# EAGLE library part RQ6E050ATTCR (library SamacSys_Parts)
MOSFET,P-channel,30V,5A,SOT457T ROHM RQ6E050ATTCR Dual P-channel MOSFET Transistor, +/-5 A, -30 V, 6-Pin SOT-457T Source: Datasheet <http://uk.rs-online.com/web/p/products/1246805P>
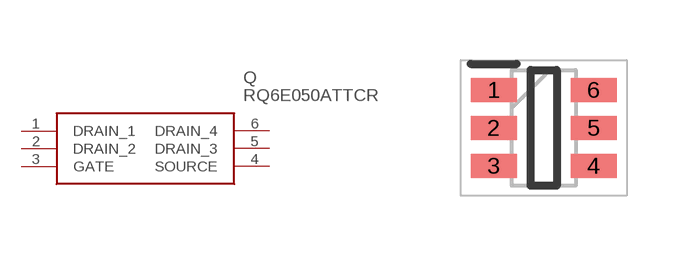
[diagram p1: symbol with the pads of SOT95P280X100-6N; footprint SOT95P280X100-6N]

Designator prefix Q

## RQ6E050ATTCR (DESCRIPTION: MOSFET,P-channel,30V,5A,SOT457T ROHM RQ6E050ATTCR Dual P-channel MOSFET Transistor, +/-5 A, -30 V, 6-Pin SOT-457T; HEIGHT: 1mm; MANUFACTURER_NAME: ROHM Semiconductor; MANUFACTURER_PART_NUMBER: RQ6E050ATTCR; RS_PART_NUMBER: 1246805P; RS_PRICE-STOCK: http://uk.rs-online.com/web/p/products/1246805P)  [SOT95P280X100-6N]
1  DRAIN_1
2  DRAIN_2
3  GATE
4  SOURCE
5  DRAIN_3
6  DRAIN_4

## Footprint SOT95P280X100-6N (pad centres in mm)
TSMT6
smd 1.15 x 0.6: 1 -1.25,0.95; 2 -1.25,0; 3 -1.25,-0.95; 4 1.25,-0.95; 5 1.25,0; 6 1.25,0.95